# EAGLE library part ESP32-S3-DEVKITC-1-N8R8 (library _esp32)
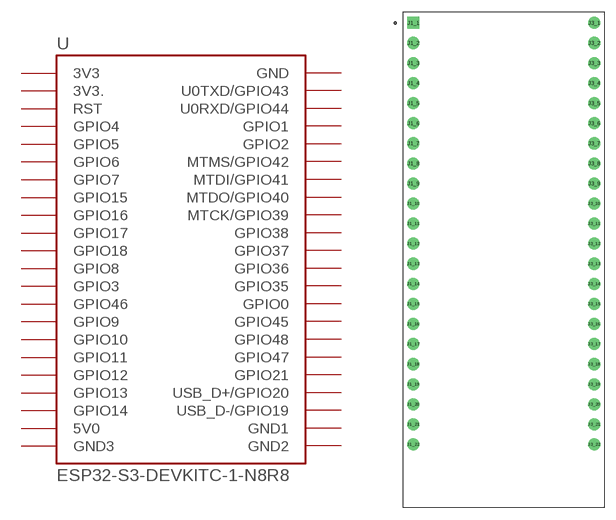
[diagram p0: symbol with the pads of ESP32-S3-DEVKITC-1-N8R8; footprint ESP32-S3-DEVKITC-1-N8R8]

Designator prefix -

## ESP32-S3-DEVKITC-1-N8R8  [ESP32-S3-DEVKITC-1-N8R8]
J1_1  3V3  pwr
J1_2  3V3.  pwr
J1_3  RST  in
J1_4  GPIO4
J1_5  GPIO5
J1_6  GPIO6
J1_7  GPIO7
J1_8  GPIO15
J1_9  GPIO16
J1_10  GPIO17
J1_11  GPIO18
J1_12  GPIO8
J1_13  GPIO3
J1_14  GPIO46
J1_15  GPIO9
J1_16  GPIO10
J1_17  GPIO11
J1_18  GPIO12
J1_19  GPIO13
J1_20  GPIO14
J1_21  5V0  pwr
J1_22  GND3  pwr
J3_1  GND  pwr
J3_2  U0TXD/GPIO43
J3_3  U0RXD/GPIO44
J3_4  GPIO1
J3_5  GPIO2
J3_6  MTMS/GPIO42
J3_7  MTDI/GPIO41
J3_8  MTDO/GPIO40
J3_9  MTCK/GPIO39
J3_10  GPIO38
J3_11  GPIO37
J3_12  GPIO36
J3_13  GPIO35
J3_14  GPIO0
J3_15  GPIO45
J3_16  GPIO48
J3_17  GPIO47
J3_18  GPIO21
J3_19  USB_D+/GPIO20
J3_20  USB_D-/GPIO19
J3_21  GND1  pwr
J3_22  GND2  pwr

## Footprint ESP32-S3-DEVKITC-1-N8R8 (pad centres in mm)
drill 1.02 square: J1_1 -11.43,29.97
drill 1.02: J1_2 -11.43,27.43; J1_3 -11.43,24.89; J1_4 -11.43,22.35; J1_5 -11.43,19.81; J1_6 -11.43,17.27; J1_7 -11.43,14.73; J1_8 -11.43,12.19; J1_9 -11.43,9.65; J1_10 -11.43,7.11; J1_11 -11.43,4.57; J1_12 -11.43,2.03; J1_13 -11.43,-0.51; J1_14 -11.43,-3.05; J1_15 -11.43,-5.59; J1_16 -11.43,-8.13; J1_17 -11.43,-10.67; J1_18 -11.43,-13.21; J1_19 -11.43,-15.75; J1_20 -11.43,-18.29; J1_21 -11.43,-20.83; J1_22 -11.43,-23.37; J3_1 11.43,29.97; J3_2 11.43,27.43; J3_3 11.43,24.89; J3_4 11.43,22.35; J3_5 11.43,19.81; J3_6 11.43,17.27; J3_7 11.43,14.73; J3_8 11.43,12.19; J3_9 11.43,9.65; J3_10 11.43,7.11; J3_11 11.43,4.57; J3_12 11.43,2.03; J3_13 11.43,-0.51; J3_14 11.43,-3.05; J3_15 11.43,-5.59; J3_16 11.43,-8.13; J3_17 11.43,-10.67; J3_18 11.43,-13.21; J3_19 11.43,-15.75; J3_20 11.43,-18.29; J3_21 11.43,-20.83; J3_22 11.43,-23.37